# EAGLE library part AY-3-8912 (library ym2149f-AY)
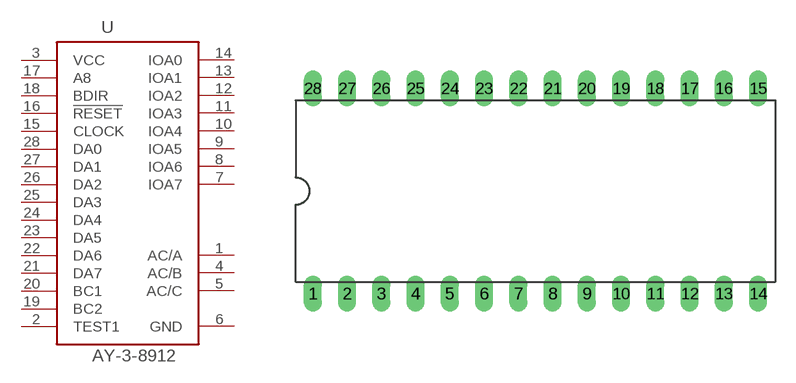
[diagram p2: symbol with the pads of DIL28; footprint DIL28]

Designator prefix -

## AY-3-8912  [DIL28]
1  AC/A
2  TEST1
3  VCC
4  AC/B
5  AC/C
6  GND
7  IOA7
8  IOA6
9  IOA5
10  IOA4
11  IOA3
12  IOA2
13  IOA1
14  IOA0
15  CLOCK
16  !RESET
17  A8
18  BDIR
19  BC2
20  BC1
21  DA7
22  DA6
23  DA5
24  DA4
25  DA3
26  DA2
27  DA1
28  DA0

## Footprint DIL28 (pad centres in mm)
Dual In Line Package
drill 0.813 long: 1 -16.51,-7.62; 2 -13.97,-7.62; 3 -11.43,-7.62; 4 -8.89,-7.62; 5 -6.35,-7.62; 6 -3.81,-7.62; 7 -1.27,-7.62; 8 1.27,-7.62; 9 3.81,-7.62; 10 6.35,-7.62; 11 8.89,-7.62; 12 11.43,-7.62; 13 13.97,-7.62; 14 16.51,-7.62; 15 16.51,7.62; 16 13.97,7.62; 17 11.43,7.62; 18 8.89,7.62; 19 6.35,7.62; 20 3.81,7.62; 21 1.27,7.62; 22 -1.27,7.62; 23 -3.81,7.62; 24 -6.35,7.62; 25 -8.89,7.62; 26 -11.43,7.62; 27 -13.97,7.62; 28 -16.51,7.62